# EAGLE library part 300S14-U (library 300S14-U)
Bipolar Transistors - BJT 4 NPN Matched Trans. Array SO-14 Source: Datasheet
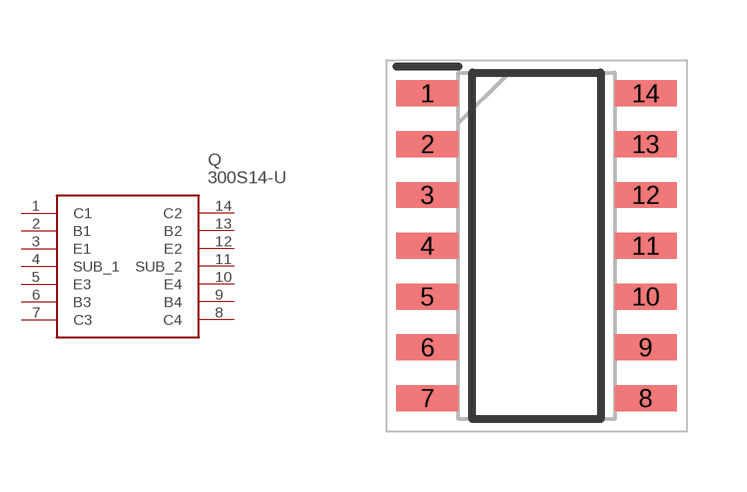
[diagram p0: symbol with the pads of SOIC127P602X175-14N; footprint SOIC127P602X175-14N]

Designator prefix Q

## 300S14-U (Description: Bipolar Transistors - BJT 4 NPN Matched Trans. Array SO-14; Height: 1.75mm; Manufacturer_Name: THAT CORPORATION; Manufacturer_Part_Number: 300S14-U; Mouser_Part_Number: 887-300S14-U; Mouser_Price-Stock: https://www.mouser.co.uk/ProductDetail/THAT/300S14-U?qs=wN%2Fcur4AVWdHgHcGlLafqA%3D%3D)  [SOIC127P602X175-14N]
1  C1
2  B1
3  E1
4  SUB_1
5  E3
6  B3
7  C3
8  C4
9  B4
10  E4
11  SUB_2
12  E2
13  B2
14  C2

## Footprint SOIC127P602X175-14N (pad centres in mm)
SO14
smd 1.545 x 0.65: 1 -2.728,3.81; 2 -2.728,2.54; 3 -2.728,1.27; 4 -2.728,0; 5 -2.728,-1.27; 6 -2.728,-2.54; 7 -2.728,-3.81; 8 2.728,-3.81; 9 2.728,-2.54; 10 2.728,-1.27; 11 2.728,0; 12 2.728,1.27; 13 2.728,2.54; 14 2.728,3.81